# Altium schematic symbol library ELECTROMECHANICAL_Test.SchLib: 4 symbols
Pins are listed as number, name and electrical type; pins without a type are passive.

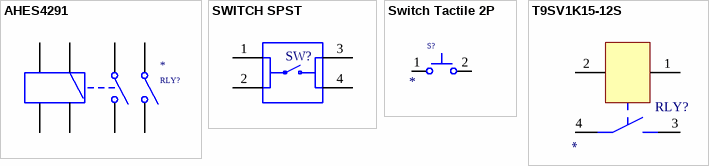
[diagram p0: symbols AHES4291 to T9SV1K15-12S]

## AHES4291
designator RLY?
RELAY GEN PURPOSE 3PST 35A 12V; Manufacturer Part Number: *
pins: 1, 2, 3, 4, 5, 6, 7, 8

## SWITCH SPST
designator SW?  (value not drawn)
SWITCH TACT 6x6MM 4.3MM; Manufacturer 1: Connfly; Manufacturer Part Number 1: DS1041-01-1-1-KKA-160-10; Voltage Rating (DC): 12V; Current Rating: 50mA; Switch Travel: 0.25mm; Actuator Type: Standard; Category: Tactile Switches; Mount: Through Hole; Min Operating Temperature: -25°C; Max Operating Temperature: 70°C; Throw Configuration: SPST; Length: 6mm; Width: 6mm
footprint SWITCH 6mmx6mm
pins: 1, 2, 3, 4

## Switch Tactile 2P
designator S?
Manufacturer Part Number: *
pins: 1, 2

## T9SV1K15-12S
designator RLY?
General Purpose Relays T9SV1K15-12S; Manufacturer Part Number: *
pins: 1 +Vcc, 2 GND, 3 IN, 4 OUT